# Altium footprint library 3225-4SMD.PcbLib: 1 footprints
Each footprint in its own frame and in the unit in brackets; x right, y up, seen from the top. Pads: shape width x height; smd on the part's side, far side on the other; paste and mask are expansions set on the pad; w line width, h text height; cw(c..) or ccw(c..) is an arc to the next point about the centre after c.
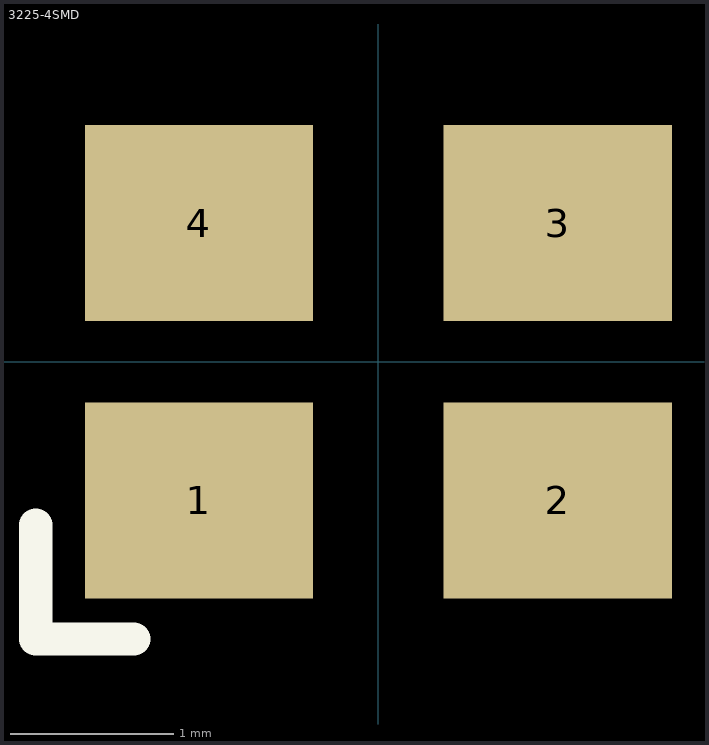
[diagram p0: the footprint, top view; thin cyan lines are the x and y axes]

## 3225-4SMD [mm] "3225 4PIn Package"
pads (4):
  rect 1.4x1.2 smd: 1(-1.1,-0.85) 2(1.1,-0.85) 3(1.1,0.85) 4(-1.1,0.85)
Top Overlay:
  lines w0.203: -2.1,-1 -2.1,-1.7 -1.5,-1.7
3D body "User Library-3225-1.step": height 0.61, standoff 0, extent -1.6,-1.2 1.6,1.3